# Altium footprint library rezystorySMD.PcbLib: 1 footprints
Each footprint in its own frame and in the unit in brackets; x right, y up, seen from the top. Pads: shape width x height; smd on the part's side, far side on the other; paste and mask are expansions set on the pad; w line width, h text height; cw(c..) or ccw(c..) is an arc to the next point about the centre after c.
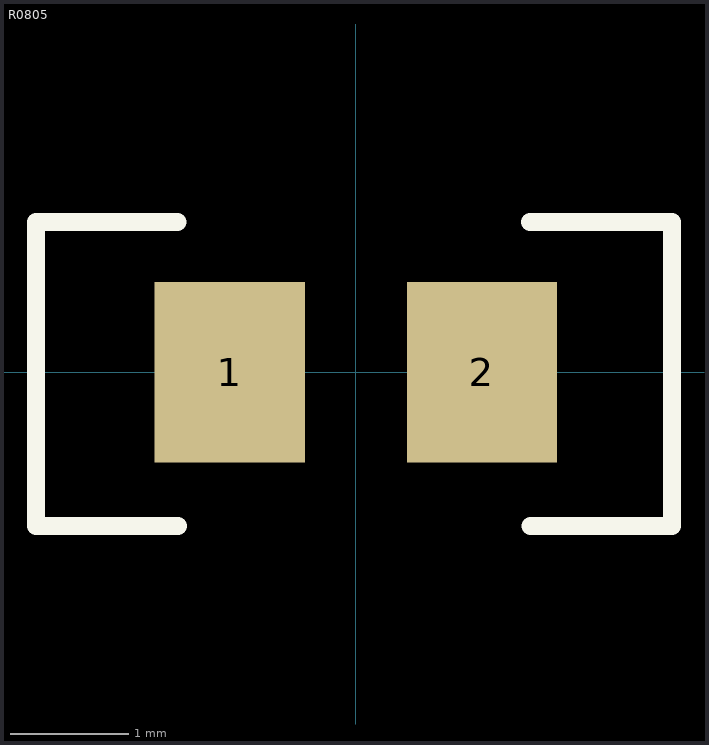
[diagram p0: the footprint, top view; thin cyan lines are the x and y axes]

## R0805 [mil]
pads (2):
  rect 50x60 smd: 1(-42,0) 2(42,0)
Top Overlay:
  lines w6: -59.38,50 -106.62,50 -106.62,-51.18 -59.2,-51.18 ; 58,50 105.43,50 105.43,-51.18 58.18,-51.18